# EAGLE library part RASPBERRY-PI-3 (library SteveMarple)
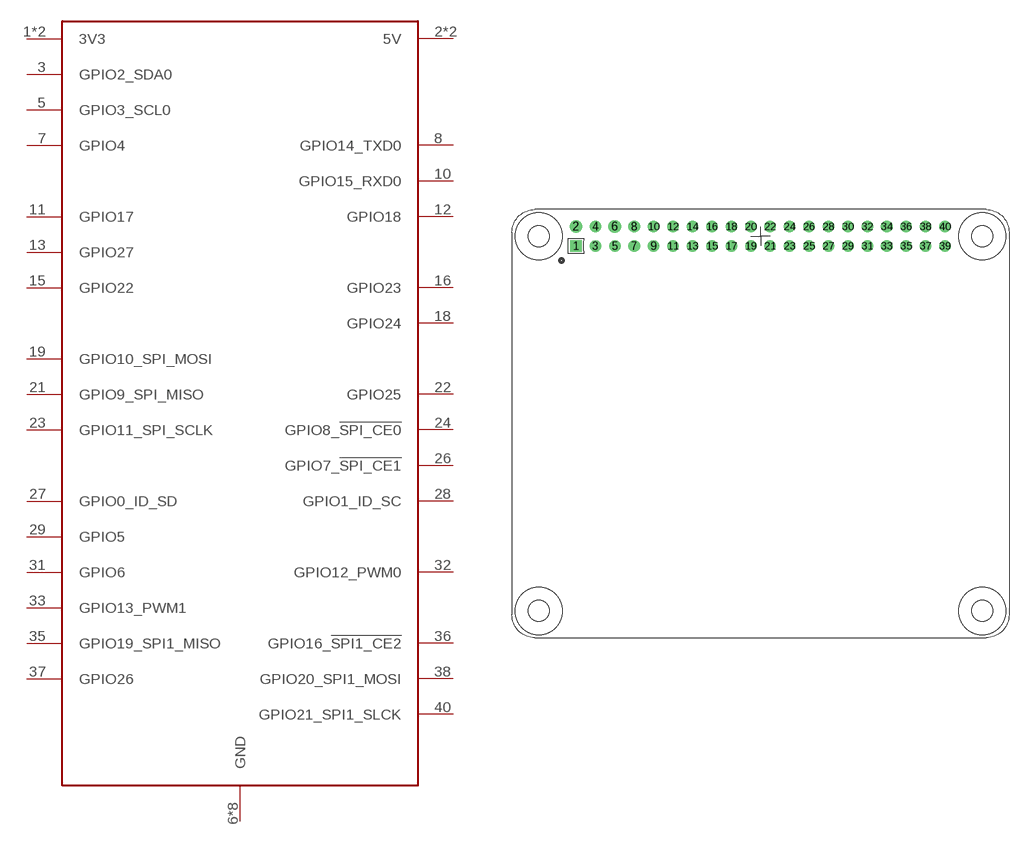
[diagram p38: symbol with the pads of RASPBERRY-PI-3; footprint RASPBERRY-PI-3]

Designator prefix -

## RASPBERRY-PI-3  [RASPBERRY-PI-3]
1  3V3
2  5V
3  GPIO2_SDA0
4  5V
5  GPIO3_SCL0
6  GND
7  GPIO4
8  GPIO14_TXD0
9  GND
10  GPIO15_RXD0
11  GPIO17
12  GPIO18
13  GPIO27
14  GND
15  GPIO22
16  GPIO23
17  3V3
18  GPIO24
19  GPIO10_SPI_MOSI
20  GND
21  GPIO9_SPI_MISO
22  GPIO25
23  GPIO11_SPI_SCLK
24  GPIO8_!SPI_CE0
25  GND
26  GPIO7_!SPI_CE1
27  GPIO0_ID_SD
28  GPIO1_ID_SC
29  GPIO5
30  GND
31  GPIO6
32  GPIO12_PWM0
33  GPIO13_PWM1
34  GND
35  GPIO19_SPI1_MISO
36  GPIO16_!SPI1_CE2
37  GPIO26
38  GPIO20_SPI1_MOSI
39  GND
40  GPIO21_SPI1_SLCK

## Footprint RASPBERRY-PI-3 (pad centres in mm)
drill 1 square: 1 8.37,51.23
drill 1 pad 1.676: 2 8.37,53.77; 6 13.45,53.77
drill 1: 3 10.91,51.23; 4 10.91,53.77; 5 13.45,51.23; 7 15.99,51.23; 8 15.99,53.77; 9 18.53,51.23; 10 18.53,53.77; 11 21.07,51.23; 12 21.07,53.77; 13 23.61,51.23; 14 23.61,53.77; 15 26.15,51.23; 16 26.15,53.77; 17 28.69,51.23; 18 28.69,53.77; 19 31.23,51.23; 20 31.23,53.77; 21 33.77,51.23; 22 33.77,53.77; 23 36.31,51.23; 24 36.31,53.77; 25 38.85,51.23; 26 38.85,53.77; 27 41.39,51.23; 28 41.39,53.77; 29 43.93,51.23; 30 43.93,53.77; 31 46.47,51.23; 32 46.47,53.77; 33 49.01,51.23; 34 49.01,53.77; 35 51.55,51.23; 36 51.55,53.77; 37 54.09,51.23; 38 54.09,53.77; 39 56.63,51.23; 40 56.63,53.77
hole 2.75 at 3.5,3.5
hole 2.75 at 3.5,52.5
hole 2.75 at 61.5,52.5
hole 2.75 at 61.5,3.5